# EAGLE library part ACS715-SO16 (library Neel)
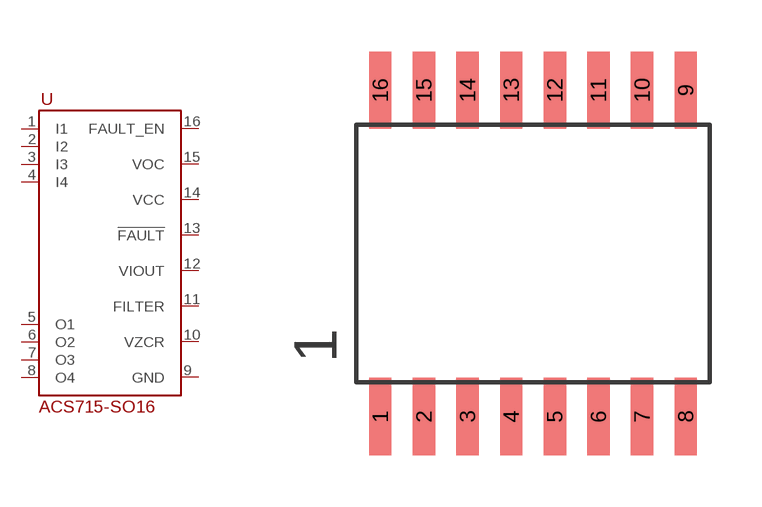
[diagram p71: symbol with the pads of SO-16; footprint SO-16]

Designator prefix -

## ACS715-SO16  [SO-16]
1  I1
2  I2
3  I3
4  I4
5  O1
6  O2
7  O3
8  O4
9  GND
10  VZCR
11  FILTER
12  VIOUT
13  !FAULT
14  VCC
15  VOC
16  FAULT_EN

## Footprint SO-16 (pad centres in mm)
smd 0.65 x 2.25: 1 -4.445,-4.75; 2 -3.175,-4.75; 3 -1.905,-4.75; 4 -0.635,-4.75; 5 0.635,-4.75; 6 1.905,-4.75; 7 3.175,-4.75; 8 4.445,-4.75; 9 4.445,4.75; 10 3.175,4.75; 11 1.905,4.75; 12 0.635,4.75; 13 -0.635,4.75; 14 -1.905,4.75; 15 -3.175,4.75; 16 -4.445,4.75